# EAGLE library part 61301025721 (library Wurth_Elektronik2)
WR-PHD 2.54mm Dual Socket Header Bottom Entry, 10 Pins =>Code : Con_BTB_SHD_2.54_2_61301025721 <http://katalog.we-online.de/media/images/eican/Con_BTB_SHD_2.54_2_6130xx25721_pf2.jpg> Details see: http://katalog.we-online.de/en/em/613_0xx_257_21 Created 2014-05-30, Karrer Zheng 2014 (C) Würth Elektronik
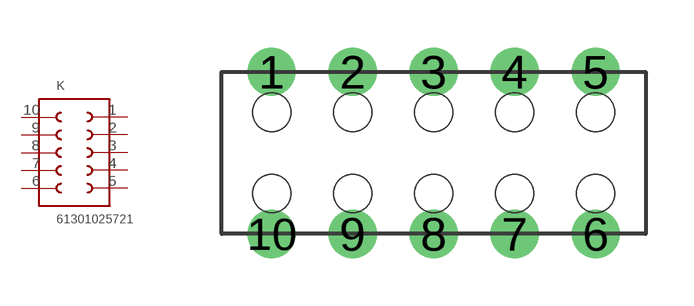
[diagram p158: symbol with the pads of 61301025721; footprint 61301025721]

Designator prefix K

## 61301025721  [61301025721]
1  1  pas
2  2  pas
3  3  pas
4  4  pas
5  5  pas
6  6  pas
7  7  pas
8  8  pas
9  9  pas
10  10  pas

## Footprint 61301025721 (pad centres in mm)
WR-PHD 2.54mm Dual Socket Header Bottom Entry, 10 Pins
drill 1: 1 -5.08,2.54; 2 -2.54,2.54; 3 0,2.54; 4 2.54,2.54; 5 5.08,2.54; 6 5.08,-2.54; 7 2.54,-2.54; 8 0,-2.54; 9 -2.54,-2.54; 10 -5.08,-2.54
hole 1.2 at -5.08,1.27
hole 1.2 at -2.54,1.27
hole 1.2 at 0,1.27
hole 1.2 at 2.54,1.27
hole 1.2 at 5.08,1.27
hole 1.2 at -5.08,-1.27
hole 1.2 at -2.54,-1.27
hole 1.2 at 0,-1.27
hole 1.2 at 2.54,-1.27
hole 1.2 at 5.08,-1.27